# Altium footprint library Passives-Crystals.PCBLIB: 15 footprints
Each footprint in its own frame and in the unit in brackets; x right, y up, seen from the top. Pads: shape width x height; smd on the part's side, far side on the other; paste and mask are expansions set on the pad; w line width, h text height; cw(c..) or ccw(c..) is an arc to the next point about the centre after c.
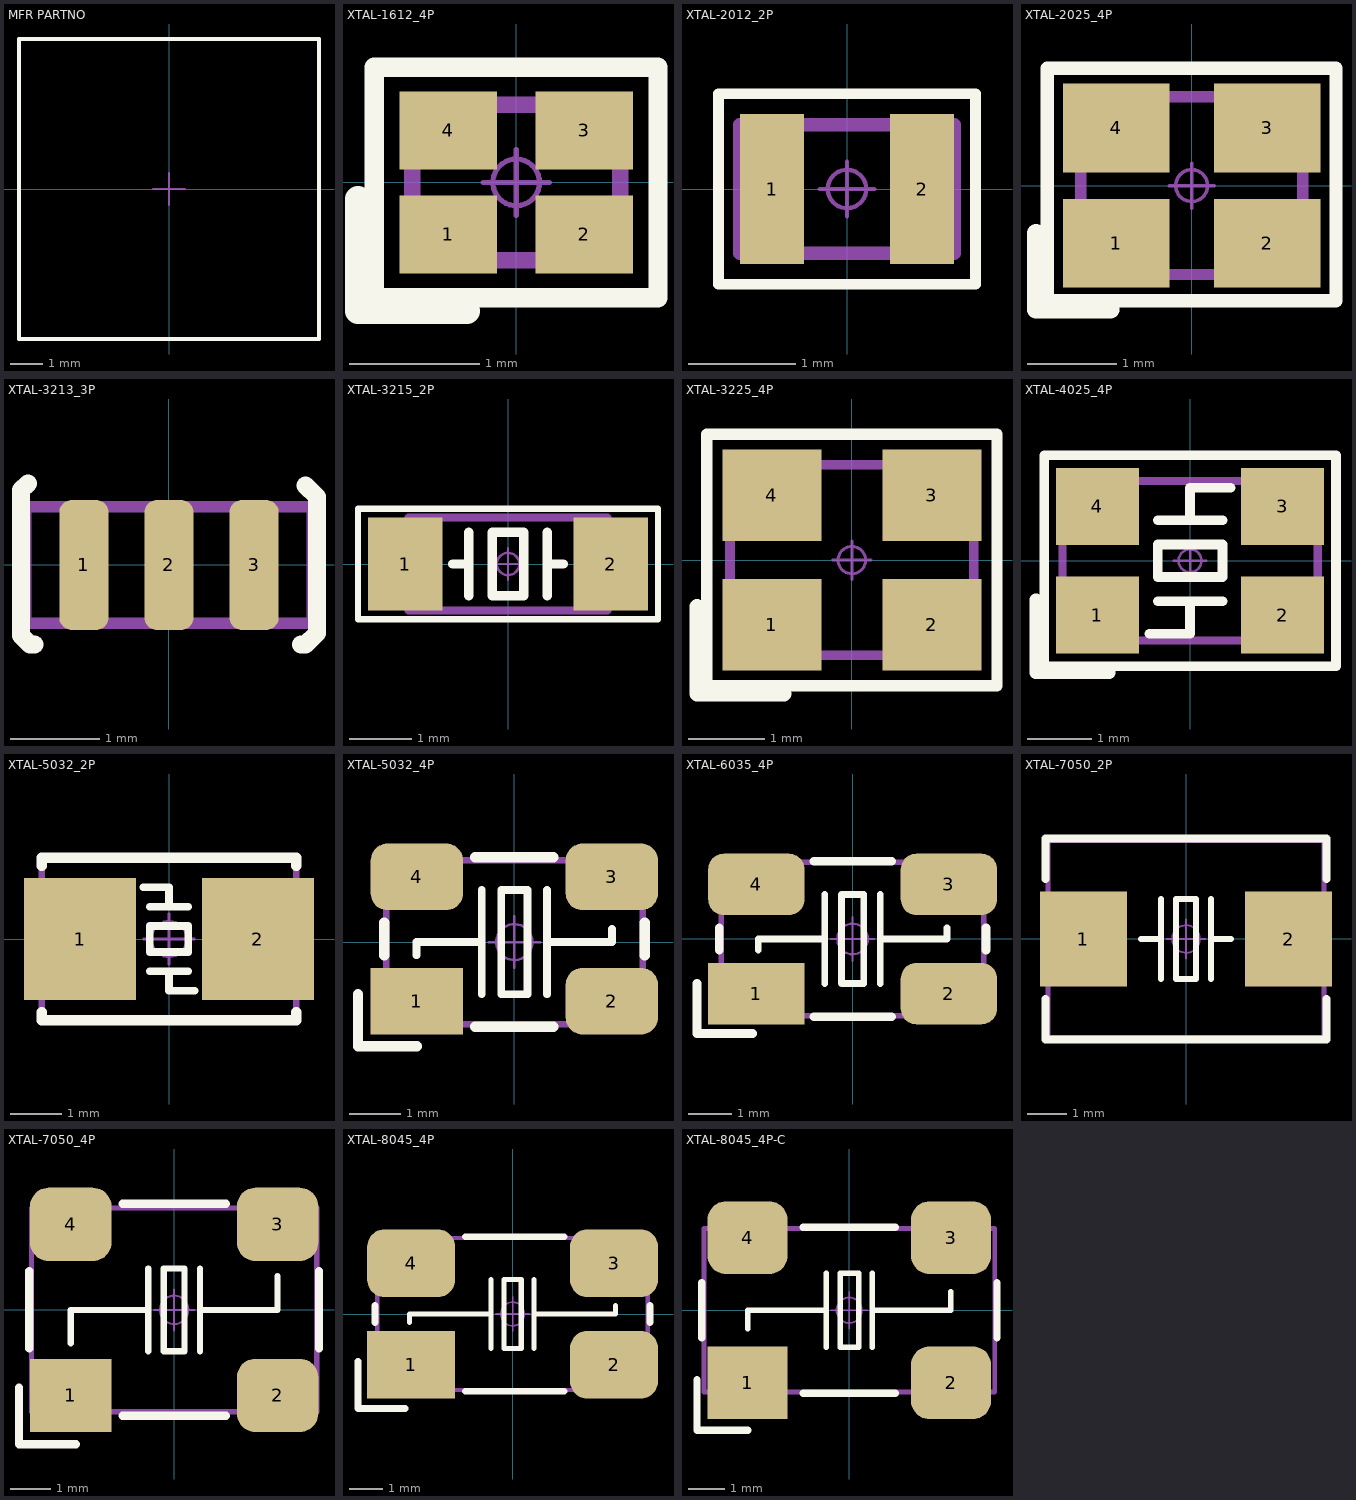
[diagram p0: the footprints below, top view; thin cyan lines are the x and y axes]

## MFR PARTNO [mm] "记得设置高度"
Top Overlay:
  lines w0.127: -4.7,-4.7 4.7,-4.7 4.7,4.7 -4.7,4.7 -4.7,-4.7
Top 元件外形:
  lines w0.127: -4.7,-4.7 -4.7,4.7 4.7,4.7 4.7,-4.7 -4.7,-4.7
Top 中心点:
  lines w0.051: -0.5,0 0.5,0 ; 0,-0.5 0,0.5

## XTAL-1612_4P [mm]
pads (4):
  rect 0.75x0.6 smd: 1(-0.525,-0.4) 2(0.525,-0.4) 3(0.525,0.4) 4(-0.525,0.4)
Top Overlay:
  lines w0.15: -1.092,-0.889 -1.092,0.889 1.092,0.889 1.092,-0.889 -1.092,-0.889
  lines w0.2: -1.219,-0.991 -0.381,-0.991 ; -1.219,-0.965 -1.219,-0.127
Top 元件外形:
  lines w0.127: -0.8,-0.6 0.8,-0.6 0.8,0.6 -0.8,0.6 -0.8,-0.6
Top 中心点:
  circle w0.04: c0,0 r0.18
  lines w0.04: -0.254,0 0.254,0 ; 0,-0.254 0,0.254
3D body "OSC_1612-4.STEP": height 0.35, standoff -0.02, extent -0.8,-0.6 0.8,0.6

## XTAL-2012_2P [mm]
pads (2):
  rect 0.6x1.4 smd: 1(-0.7,0) 2(0.7,0)
Top Overlay:
  lines w0.1: -1.2,-0.889 1.2,-0.889 1.2,0.889 -1.2,0.889 -1.2,-0.889
Top 元件外形:
  lines w0.127: -1,-0.6 -1,-0.6 ; -1,-0.6 1,-0.6 ; -1,-0.6 -1,0.6 1,0.6 1,-0.6 ; 1,-0.6 1,-0.6
Top 中心点:
  circle w0.04: c0,0 r0.18
  lines w0.04: -0.254,0 0.254,0 ; 0,-0.254 0,0.254
3D body "晶振2012.step": height 0.5, standoff 0, extent -1,-0.6 1,0.6

## XTAL-2025_4P [mm]
pads (4):
  rect 1.2x1 smd: 1(-0.85,-0.65) 2(0.85,-0.65) 3(0.85,0.65) 4(-0.85,0.65)
Top Overlay:
  lines w0.15: -1.626,-1.295 -1.626,1.321 1.626,1.321 1.626,-1.295 -1.626,-1.295
  lines w0.2: -1.753,-1.397 -0.914,-1.397 ; -1.753,-1.372 -1.753,-0.533
Top 元件外形:
  lines w0.127: -1.25,-1 -1.25,1 1.25,1 1.25,-1 -1.25,-1
Top 中心点:
  circle w0.04: c0,0 r0.18
  lines w0.04: -0.254,0 0.254,0 ; 0,-0.254 0,0.254
3D body "OSC_2025-4.STEP": height 0.55, standoff -0.02, extent -1.25,-1 1.25,1

## XTAL-3213_3P [mm]
pads (3):
  rrect50% 0.55x1.45 smd: 1(-0.95,0) 2(0,0) 3(0.95,0)
Top Overlay:
  lines w0.2: -1.576,0.911 -1.651,0.836 -1.651,-0.789 -1.551,-0.889 -1.501,-0.889 ; 1.474,-0.889 1.524,-0.889 1.651,-0.762 1.651,0.762 1.524,0.889
Top 元件外形:
  lines w0.127: -1.6,-0.65 1.6,-0.65 1.6,0.65 -1.6,0.65 -1.6,-0.65
Top 中心点:
  circle w0.04: c0,0 r0.18
  lines w0.04: -0.254,0 0.254,0 ; 0,-0.254 0,0.254
3D body: height 0, standoff 0, extent 1.474,-0.89 1.652,0.89
3D body: height 0, standoff 0, extent 1.474,-0.89 1.652,0.89
3D body "123123123.stp": height 0.7, standoff 0, extent -1.6,-0.65 1.6,0.65

## XTAL-3215_2P [mm]
pads (2):
  rect 1.2x1.5 smd: 1(-1.65,0) 2(1.65,0)
Top Overlay:
  lines w0.1: -2.413,-0.889 2.413,-0.889 2.413,0.889 -2.413,0.889 -2.413,-0.889
  lines w0.152: -0.889,0 -0.635,0 ; -0.635,-0.508 -0.635,0.508 ; 0.635,-0.508 0.635,0.508 ; 0.635,0 0.889,0 ; -0.254,-0.508 -0.254,0.508 0.254,0.508 0.254,-0.508 -0.254,-0.508
Top 元件外形:
  lines w0.127: -1.6,-0.75 -1.6,0.75 1.6,0.75 1.6,-0.75 -1.6,-0.75
Top 中心点:
  circle w0.04: c0,0 r0.18
  lines w0.04: -0.254,0 0.254,0 ; 0,-0.254 0,0.254
3D body "OSC_3215-2.STEP": height 0.61, standoff -0.01, extent -1.6,-0.75 1.6,0.75

## XTAL-3225_4P [mm]
pads (4):
  rect 1.3x1.2 smd: 1(-1.05,-0.85) 2(1.05,-0.85) 3(1.05,0.85) 4(-1.05,0.85)
Top Overlay:
  lines w0.15: -1.905,-1.651 1.905,-1.651 1.905,1.651 -1.905,1.651 -1.905,-1.651
  lines w0.2: -2.032,-1.753 -0.889,-1.753 ; -2.032,-1.727 -2.032,-0.61
Top 元件外形:
  lines w0.127: -1.6,-1.25 1.6,-1.25 1.6,1.25 -1.6,1.25 -1.6,-1.25
Top 中心点:
  circle w0.04: c0,0 r0.18
  lines w0.04: -0.254,0 0.254,0 ; 0,-0.254 0,0.254
3D body "OSC_3225-4.STEP": height 0.7, standoff -0.02, extent -1.6,-1.25 1.6,1.25

## XTAL-4025_4P [mm]
pads (4):
  rect 1.3x1.2 smd: 1(-1.45,-0.85) 2(1.45,-0.85) 3(1.45,0.85) 4(-1.45,0.85)
Top Overlay:
  lines w0.15: -2.286,-1.651 2.286,-1.651 2.286,1.651 -2.286,1.651 -2.286,-1.651
  lines w0.152: -0.635,-1.143 0,-1.143 0,-0.635 ; -0.508,-0.635 0.508,-0.635 ; -0.508,0.635 0.508,0.635 ; 0,0.635 0,1.143 0.635,1.143 ; -0.508,-0.254 0.508,-0.254 0.508,0.254 -0.508,0.254 -0.508,-0.254
  lines w0.2: -2.413,-1.753 -1.27,-1.753 ; -2.413,-1.727 -2.413,-0.61
Top 元件外形:
  lines w0.127: -2,-1.25 -2,1.25 2,1.25 2,-1.25 -2,-1.25
Top 中心点:
  circle w0.04: c0,0 r0.18
  lines w0.04: -0.254,0 0.254,0 ; 0,-0.254 0,0.254
3D body "OSC_4025-4.STEP": height 0.75, standoff 0.03, extent -2,-1.25 2,1.25

## XTAL-5032_2P [mm]
pads (2):
  rect 2.2x2.4 smd: 1(-1.75,0) 2(1.75,0)
Top Overlay:
  lines w0.152: -0.508,1.016 0,1.016 0,0.635 ; -0.381,-0.635 0.381,-0.635 ; -0.381,0.635 0.381,0.635 ; 0,-0.635 0,-1.016 0.381,-1.016 0.508,-1.016 ; -0.381,-0.254 0.381,-0.254 0.381,0.254 -0.381,0.254 -0.381,-0.254
  lines w0.203: -2.5,-1.437 -2.5,-1.6 2.5,-1.6 2.5,-1.437 ; -2.5,1.437 -2.5,1.6 2.5,1.6 2.5,1.437
Top 元件外形:
  lines w0.127: -2.5,-1.6 2.5,-1.6 2.5,1.6 ; -2.5,-1.6 -2.5,-1.6 ; -2.5,-1.6 -2.5,1.6 2.5,1.6 ; 2.5,1.6 2.5,1.6
Top 中心点:
  circle w0.05: c0,0 r0.35
  lines w0.05: -0.5,0 0.5,0 ; 0,-0.5 0,0.5
3D body "OSC_5032-2.STEP": height 0.86, standoff 0.04, extent -2.5,-1.6 2.5,1.6

## XTAL-5032_4P [mm]
pads (4):
  rect 1.8x1.3 smd: 1(-1.9,-1.15)
  rrect50% 1.8x1.3 smd: 2(1.9,-1.15) 3(1.9,1.272) 4(-1.9,1.272)
Top Overlay:
  lines w0.152: -1.905,-0.254 -1.905,0 -1.397,0 -0.635,0 ; -0.635,-1.016 -0.635,1.016 ; 0.635,-1.016 0.635,1.016 ; 0.635,0 1.397,0 1.905,0 1.905,0.254 ; -0.254,-1.016 0.254,-1.016 0.254,1.016 -0.254,1.016 -0.254,-1.016
  lines w0.203: -3.048,-1.016 -3.048,-2.032 -1.905,-2.032 ; -2.54,-0.254 -2.54,0.381 ; -0.762,-1.651 0.762,-1.651 ; -0.762,1.651 0.762,1.651 ; 2.54,-0.254 2.54,0.381
Top 元件外形:
  lines w0.127: -2.5,-1.6 2.5,-1.6 2.5,1.6 -2.5,1.6 -2.5,-1.6
Top 中心点:
  circle w0.05: c0,0 r0.35
  lines w0.05: -0.5,0 0.5,0 ; 0,-0.5 0,0.5
3D body "OSC_5032-4.STEP": height 0.86, standoff 0.03, extent -2.5,-1.6 2.5,1.6

## XTAL-6035_4P [mm]
pads (4):
  rect 2.2x1.4 smd: 1(-2.2,-1.25)
  rrect50% 2.2x1.4 smd: 2(2.2,-1.25) 3(2.2,1.25) 4(-2.2,1.25)
Top Overlay:
  lines w0.152: -2.159,-0.254 -2.159,0 -1.397,0 -0.635,0 ; -0.635,-1.016 -0.635,1.016 ; 0.635,-1.016 0.635,1.016 ; 0.635,0 1.397,0 2.159,0 2.159,0.254 ; -0.254,-1.016 -0.254,1.016 0.254,1.016 0.254,-1.016 -0.254,-1.016
  lines w0.203: -3.556,-1.016 -3.556,-2.159 -2.286,-2.159 ; -3.048,-0.254 -3.048,0.254 ; -0.889,-1.778 0.889,-1.778 ; -0.889,1.778 0.889,1.778 ; 3.048,-0.254 3.048,0.254
Top 元件外形:
  lines w0.127: -3,-1.75 3,-1.75 3,1.75 -3,1.75 -3,-1.75
Top 中心点:
  circle w0.05: c0,0 r0.35
  lines w0.05: -0.5,0 0.5,0 ; 0,-0.5 0,0.5
3D body "OSC_6035-4.STEP": height 1.06, standoff 0.03, extent -3,-1.75 3,1.75

## XTAL-7050_2P [mm]
pads (2):
  rect 2.2x2.4 smd: 1(-2.6,0) 2(2.6,0)
Top Overlay:
  lines w0.152: -1.143,0 -0.635,0 ; -0.635,-1.016 -0.635,1.016 ; 0.635,-1.016 0.635,1.016 ; 0.635,0 1.143,0 ; -0.254,-1.016 0.254,-1.016 0.254,1.016 -0.254,1.016 -0.254,-1.016
  lines w0.203: -3.556,-1.524 -3.556,-2.54 3.556,-2.54 3.556,-1.524 ; -3.556,1.524 -3.556,2.54 3.556,2.54 3.556,1.524
Top 元件外形:
  lines w0.127: -3.5,-2.5 3.5,-2.5 3.5,2.5 -3.5,2.5 -3.5,-2.5
Top 中心点:
  circle w0.05: c0,0 r0.35
  lines w0.05: -0.5,0 0.5,0 ; 0,-0.5 0,0.5
3D body "OSC_7050-2.STEP": height 1.36, standoff 0.04, extent -3.5,-2.5 3.5,2.5

## XTAL-7050_4P [mm]
pads (4):
  rect 2x1.8 smd: 1(-2.54,-2.1)
  rrect50% 2x1.8 smd: 2(2.54,-2.1) 3(2.54,2.1) 4(-2.54,2.1)
Top Overlay:
  lines w0.152: -2.54,-0.821 -2.54,0 -1.397,0 -0.635,0 ; -0.635,-1.016 -0.635,1.016 ; 0.635,-1.016 0.635,1.016 ; 0.635,0 1.397,0 2.54,0 2.54,0.83 ; -0.254,-1.016 -0.254,1.016 0.254,1.016 0.254,-1.016 -0.254,-1.016
  lines w0.203: -3.81,-1.905 -3.81,-3.302 -2.413,-3.302 ; -3.556,-0.948 -3.556,0.957 ; -1.27,-2.599 1.27,-2.599 ; -1.27,2.608 1.27,2.608 ; 3.556,-0.948 3.556,0.957
Top 元件外形:
  lines w0.127: -3.5,-2.5 -3.5,2.5 3.5,2.5 3.5,-2.5 -3.5,-2.5
Top 中心点:
  circle w0.05: c0,0 r0.35
  lines w0.05: -0.5,0 0.5,0 ; 0,-0.5 0,0.5
3D body "OSC_7050-4.STEP": height 1.36, standoff 0.04, extent -3.5,-2.5 3.5,2.5

## XTAL-8045_4P [mm]
pads (4):
  rect 2.6x2 smd: 1(-3,-1.5)
  rrect50% 2.6x2 smd: 2(3,-1.5) 3(3,1.5) 4(-3,1.5)
Top Overlay:
  lines w0.152: -3.048,-0.254 -3.048,0 -1.397,0 -0.635,0 ; -0.635,-1.016 -0.635,1.016 ; 0.635,-1.016 0.635,1.016 ; 0.635,0 1.397,0 3.048,0 3.048,0.254 ; -0.254,-1.016 -0.254,1.016 0.254,1.016 0.254,-1.016 -0.254,-1.016
  lines w0.203: -4.572,-1.397 -4.572,-2.794 -3.175,-2.794 ; -4.064,-0.254 -4.064,0.254 ; -1.397,-2.286 1.524,-2.286 ; -1.397,2.286 1.524,2.286 ; 4.064,-0.254 4.064,0.254
Top 元件外形:
  lines w0.127: -4,-2.25 4,-2.25 4,2.25 -4,2.25 -4,-2.25
Top 中心点:
  circle w0.05: c0,0 r0.35
  lines w0.05: -0.5,0 0.5,0 ; 0,-0.5 0,0.5
3D body "OSC_8045-4.STEP": height 2.05, standoff 0.04, extent -4,-2.25 4,2.25

## XTAL-8045_4P-C [mm]
pads (4):
  rect 2.2x2 smd: 1(-2.8,-1.996)
  rrect50% 2.2x2 smd: 2(2.8,-1.996) 3(2.8,1.996) 4(-2.8,1.996)
Top Overlay:
  lines w0.152: -2.794,-0.508 -2.794,0 -1.397,0 -0.635,0 ; -0.635,-1.016 -0.635,1.016 ; 0.635,-1.016 0.635,1.016 ; 0.635,0 1.397,0 2.794,0 2.794,0.508 ; -0.254,-1.016 -0.254,1.016 0.254,1.016 0.254,-1.016 -0.254,-1.016
  lines w0.203: -4.191,-1.905 -4.191,-3.302 -2.794,-3.302 ; -4.064,-0.762 -4.064,0.762 ; -1.27,-2.286 1.27,-2.286 ; -1.27,2.286 1.27,2.286 ; 4.064,-0.762 4.064,0.762
Top 元件外形:
  lines w0.127: -4,-2.25 -4,2.25 4,2.25 4,-2.25 -4,-2.25
Top 中心点:
  circle w0.05: c0,0 r0.35
  lines w0.05: -0.5,0 0.5,0 ; 0,-0.5 0,0.5
3D body "OSC_8045-4-a.STEP": height 1.66, standoff 0.03, extent -4,-2.25 4,2.25